# Altium integrated library FSC Logic Arithmetic.IntLib: 2 symbols
Pins are listed as number, name and electrical type; pins without a type are passive.

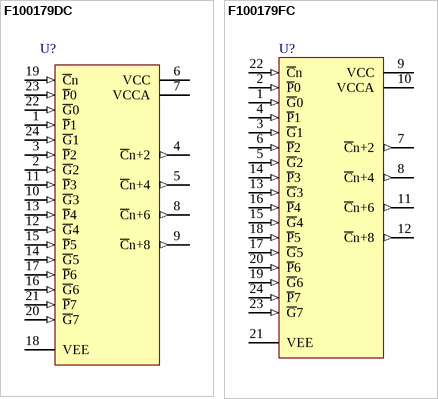
[diagram p0: symbols F100179DC to F100179FC]

## F100179DC
designator U?
Carry Lookahead Generator; Note: VCC = VCCA = GND; Published: 17-Jul-2002; LatestRevisionDate: 29-May-2009; LatestRevisionNote: Component Body Added.; DatasheetVersion: 1986; PackageVersion: 1986; PackageReference: 6Y; Publisher: Altium Limited; PackageDescription: DIP, 24-Pin, Row Spacing 10.16 mm, Pitch 2.54 mm; ComponentLink1Description: Manufacturer Link; ComponentLink1URL: http://www.fairchildsemi.com/
footprint 6Y (DIP, 24-Leads, Row Spacing 10.16mm, Pitch 2.54mm, Body 30.57x9.89mm)
3D model 6Y (DIP, 24-Pin, Row Spacing 10.16 mm, Pitch 2.54 mm)
pins: 1 ~{P}1 (in), 2 ~{G}2 (in), 3 ~{P}2 (in), 4 ~{C}n+2 (out), 5 ~{C}n+4 (out), 6 VCC (power), 7 VCCA (power), 8 ~{C}n+6 (out), 9 ~{C}n+8 (out), 10 ~{G}3 (in), 11 ~{P}3 (in), 12 ~{G}4 (in), 13 ~{P}4 (in), 14 ~{G}5 (in), 15 ~{P}5 (in), 16 ~{G}6 (in), 17 ~{P}6 (in), 18 VEE (power), 19 ~{C}n (in), 20 ~{G}7 (in), 21 ~{P}7 (in), 22 ~{G}0 (in), 23 ~{P}0 (in), 24 ~{G}1 (in)
1 alternate drawing of the same symbol

## F100179FC
designator U?
Carry Lookahead Generator; Note: VCC = VCCA = GND.; Published: 17-Jul-2002; LatestRevisionDate: 13-Apr-2006; LatestRevisionNote: IPC-7351 Footprint Added.; DatasheetVersion: 1986; PackageVersion: 1986; PackageReference: 4Q; Publisher: Altium Limited; PackageDescription: 100-Pin Quad Cerpak 1.27 mm Pitch; ComponentLink1Description: Manufacturer Link; ComponentLink1URL: http://www.fairchildsemi.com/
footprint 4Q_N (CQFP, 24-Leads, Body 10x10mm; Pitch 1.27mm, Gullwing Leadform, IPC Medium Density)
footprint 4Q_L (CQFP, 24-Leads, Body 10x10mm; Pitch 1.27mm, Gullwing Leadform, IPC High Density)
footprint 4Q_M (CQFP, 24-Leads, Body 10x10mm; Pitch 1.27mm, Gullwing Leadform, IPC Low Density)
3D model F100179-4Q (100-Pin Quad Cerpak 1.27 mm Pitch)
pins: 1 ~{G}0 (in), 2 ~{P}0 (in), 3 ~{G}1 (in), 4 ~{P}1 (in), 5 ~{G}2 (in), 6 ~{P}2 (in), 7 ~{C}n+2 (out), 8 ~{C}n+4 (out), 9 VCC (power), 10 VCCA (power), 11 ~{C}n+6 (out), 12 ~{C}n+8 (out), 13 ~{G}3 (in), 14 ~{P}3 (in), 15 ~{G}4 (in), 16 ~{P}4 (in), 17 ~{G}5 (in), 18 ~{P}5 (in), 19 ~{G}6 (in), 20 ~{P}6 (in), 21 VEE (power), 22 ~{C}n (in), 23 ~{G}7 (in), 24 ~{P}7 (in)